# EAGLE library part IN-8 (library Nixie)
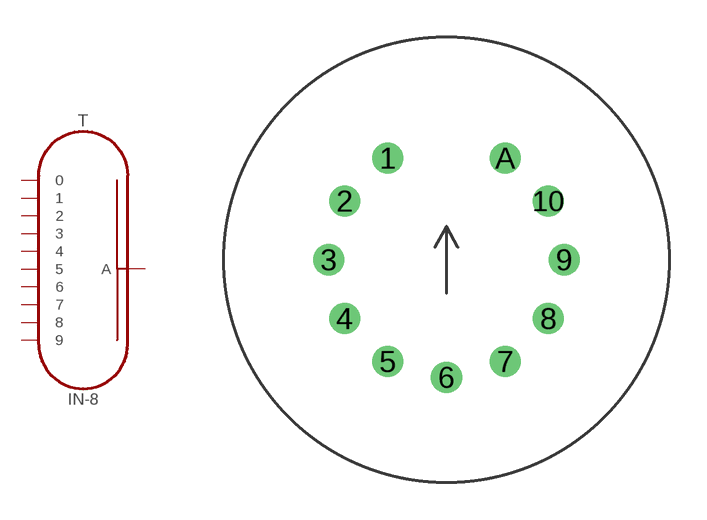
[diagram p5: symbol with the pads of IN-8; footprint IN-8]

Designator prefix T

## IN-8  [IN-8]
1  1
2  2
3  3
4  4
5  5
6  6
7  7
8  8
9  9
10  0
A  A

## Footprint IN-8 (pad centres in mm)
May be used with socket: 11-pin- Russian
drill 0.75: 1 -2.375,4.11; 2 -4.11,2.375; 3 -4.75,0; 4 -4.11,-2.375; 5 -2.375,-4.11; 6 0,-4.75; 7 2.375,-4.11; 8 4.11,-2.375; 9 4.75,0; 10 4.11,2.375; A 2.375,4.11